# Altium footprint library QFN-32_UH-L.PcbLib: 1 footprints
Each footprint in its own frame and in the unit in brackets; x right, y up, seen from the top. Pads: shape width x height; smd on the part's side, far side on the other; paste and mask are expansions set on the pad; w line width, h text height; cw(c..) or ccw(c..) is an arc to the next point about the centre after c.
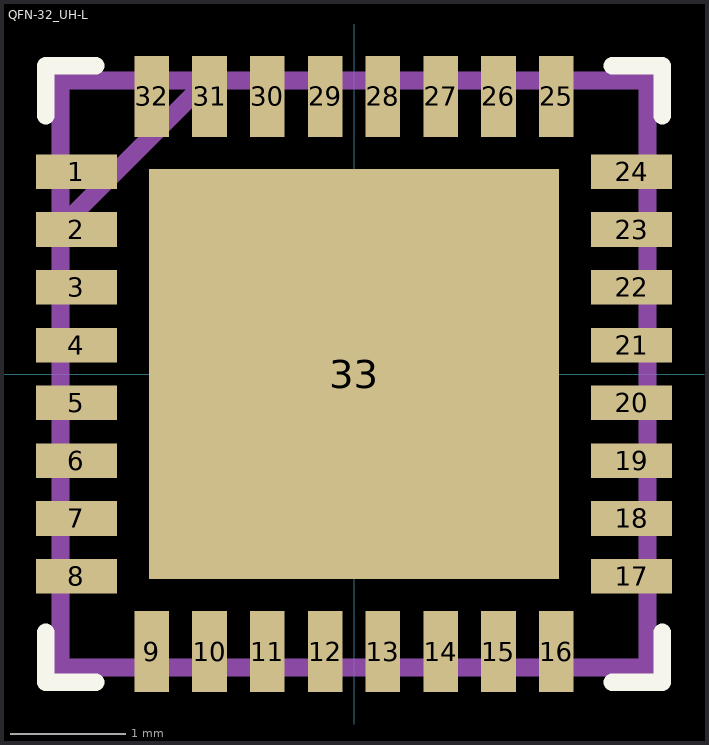
[diagram p0: the footprint, top view; thin cyan lines are the x and y axes]

## QFN-32_UH-L [mm]
pads (33):
  rect 0.703x0.3 smd paste-25.4 mask-25.4: 1(-2.402,1.75) 2(-2.402,1.25) 3(-2.402,0.75) 4(-2.402,0.25) 5(-2.402,-0.25) 6(-2.402,-0.75) 7(-2.402,-1.25) 8(-2.402,-1.75) 17(2.402,-1.75) 18(2.402,-1.25) 19(2.402,-0.75) 20(2.402,-0.25) 21(2.402,0.25) 22(2.402,0.75) 23(2.402,1.25) 24(2.402,1.75)
  rect 0.3x0.703 smd paste-25.4 mask-25.4: 9(-1.75,-2.402) 10(-1.25,-2.402) 11(-0.75,-2.402) 12(-0.25,-2.402) 13(0.25,-2.402) 14(0.75,-2.402) 15(1.25,-2.402) 16(1.75,-2.402) 25(1.75,2.402) 26(1.25,2.402) 27(0.75,2.402) 28(0.25,2.402) 29(-0.25,2.402) 30(-0.75,2.402) 31(-1.25,2.402) 32(-1.75,2.402)
  rect 3.55x3.55 smd mask-25.4: 33(0,0)
Top Overlay:
  lines w0.152: -2.667,-2.235 -2.667,-2.667 -2.235,-2.667 ; -2.667,2.235 -2.667,2.667 -2.235,2.667 ; 2.235,-2.667 2.667,-2.667 2.667,-2.235 ; 2.235,2.667 2.667,2.667 2.667,2.235
Top Paste:
  region: -1.6,2.753 -1.9,2.753 -1.9,2.05 -1.6,2.05
  region: -1.1,2.753 -1.4,2.753 -1.4,2.05 -1.1,2.05
  region: -0.6,2.753 -0.9,2.753 -0.9,2.05 -0.6,2.05
  region: -0.1,2.753 -0.4,2.753 -0.4,2.05 -0.1,2.05
  region: 0.4,2.753 0.1,2.753 0.1,2.05 0.4,2.05
  region: 0.9,2.753 0.6,2.753 0.6,2.05 0.9,2.05
  region: 1.4,2.753 1.1,2.753 1.1,2.05 1.4,2.05
  region: 1.9,2.753 1.6,2.753 1.6,2.05 1.9,2.05
  region: 2.05,1.9 2.05,1.6 2.753,1.6 2.753,1.9
  region: 2.05,1.4 2.05,1.1 2.753,1.1 2.753,1.4
  region: 2.05,0.9 2.05,0.6 2.753,0.6 2.753,0.9
  region: 2.05,0.4 2.05,0.1 2.753,0.1 2.753,0.4
  region: 2.05,-0.1 2.05,-0.4 2.753,-0.4 2.753,-0.1
  region: 2.05,-0.6 2.05,-0.9 2.753,-0.9 2.753,-0.6
  region: 2.05,-1.1 2.05,-1.4 2.753,-1.4 2.753,-1.1
  region: 2.05,-1.6 2.05,-1.9 2.753,-1.9 2.753,-1.6
  region: 1.9,-2.05 1.6,-2.05 1.6,-2.753 1.9,-2.753
  region: 1.4,-2.05 1.1,-2.05 1.1,-2.753 1.4,-2.753
  region: 0.9,-2.05 0.6,-2.05 0.6,-2.753 0.9,-2.753
  region: 0.4,-2.05 0.1,-2.05 0.1,-2.753 0.4,-2.753
  region: -0.1,-2.05 -0.4,-2.05 -0.4,-2.753 -0.1,-2.753
  region: -0.6,-2.05 -0.9,-2.05 -0.9,-2.753 -0.6,-2.753
  region: -1.1,-2.05 -1.4,-2.05 -1.4,-2.753 -1.1,-2.753
  region: -1.6,-2.05 -1.9,-2.05 -1.9,-2.753 -1.6,-2.753
  region: -2.753,-1.6 -2.753,-1.9 -2.05,-1.9 -2.05,-1.6
  region: -2.753,-1.1 -2.753,-1.4 -2.05,-1.4 -2.05,-1.1
  region: -2.753,-0.6 -2.753,-0.9 -2.05,-0.9 -2.05,-0.6
  region: -2.753,-0.1 -2.753,-0.4 -2.05,-0.4 -2.05,-0.1
  region: -2.753,0.4 -2.753,0.1 -2.05,0.1 -2.05,0.4
  region: -2.753,0.9 -2.753,0.6 -2.05,0.6 -2.05,0.9
  region: -2.753,1.4 -2.753,1.1 -2.05,1.1 -2.05,1.4
  region: -2.753,1.9 -2.753,1.6 -2.05,1.6 -2.05,1.9
Top Solder:
  region: -1.775,-1.775 1.775,-1.775 1.775,1.775 -1.775,1.775
  region: -1.6,2.753 -1.9,2.753 -1.9,2.05 -1.6,2.05
  region: -1.1,2.753 -1.4,2.753 -1.4,2.05 -1.1,2.05
  region: -0.6,2.753 -0.9,2.753 -0.9,2.05 -0.6,2.05
  region: -0.1,2.753 -0.4,2.753 -0.4,2.05 -0.1,2.05
  region: 0.4,2.753 0.1,2.753 0.1,2.05 0.4,2.05
  region: 0.9,2.753 0.6,2.753 0.6,2.05 0.9,2.05
  region: 1.4,2.753 1.1,2.753 1.1,2.05 1.4,2.05
  region: 1.9,2.753 1.6,2.753 1.6,2.05 1.9,2.05
  region: 2.05,1.9 2.05,1.6 2.753,1.6 2.753,1.9
  region: 2.05,1.4 2.05,1.1 2.753,1.1 2.753,1.4
  region: 2.05,0.9 2.05,0.6 2.753,0.6 2.753,0.9
  region: 2.05,0.4 2.05,0.1 2.753,0.1 2.753,0.4
  region: 2.05,-0.1 2.05,-0.4 2.753,-0.4 2.753,-0.1
  region: 2.05,-0.6 2.05,-0.9 2.753,-0.9 2.753,-0.6
  region: 2.05,-1.1 2.05,-1.4 2.753,-1.4 2.753,-1.1
  region: 2.05,-1.6 2.05,-1.9 2.753,-1.9 2.753,-1.6
  region: 1.9,-2.05 1.6,-2.05 1.6,-2.753 1.9,-2.753
  region: 1.4,-2.05 1.1,-2.05 1.1,-2.753 1.4,-2.753
  region: 0.9,-2.05 0.6,-2.05 0.6,-2.753 0.9,-2.753
  region: 0.4,-2.05 0.1,-2.05 0.1,-2.753 0.4,-2.753
  region: -0.1,-2.05 -0.4,-2.05 -0.4,-2.753 -0.1,-2.753
  region: -0.6,-2.05 -0.9,-2.05 -0.9,-2.753 -0.6,-2.753
  region: -1.1,-2.05 -1.4,-2.05 -1.4,-2.753 -1.1,-2.753
  region: -1.6,-2.05 -1.9,-2.05 -1.9,-2.753 -1.6,-2.753
  region: -2.753,-1.6 -2.753,-1.9 -2.05,-1.9 -2.05,-1.6
  region: -2.753,-1.1 -2.753,-1.4 -2.05,-1.4 -2.05,-1.1
  region: -2.753,-0.6 -2.753,-0.9 -2.05,-0.9 -2.05,-0.6
  region: -2.753,-0.1 -2.753,-0.4 -2.05,-0.4 -2.05,-0.1
  region: -2.753,0.4 -2.753,0.1 -2.05,0.1 -2.05,0.4
  region: -2.753,0.9 -2.753,0.6 -2.05,0.6 -2.05,0.9
  region: -2.753,1.4 -2.753,1.1 -2.05,1.1 -2.05,1.4
  region: -2.753,1.9 -2.753,1.6 -2.05,1.6 -2.05,1.9
Mechanical 1:
  lines w0.152: -2.54,-1.905 -2.54,-1.6 ; -2.54,-1.397 -2.54,-1.092 ; -2.54,-0.889 -2.54,-0.61 ; -2.54,-0.406 -2.54,-0.102 ; -2.54,0.102 -2.54,0.406 ; -2.54,0.61 -2.54,0.889 ; -2.54,1.092 -2.54,1.397 ; -2.54,1.27 -1.27,2.54 ; -2.54,1.6 -2.54,1.905 ; -1.905,-2.54 -1.6,-2.54 ; -1.905,2.54 -1.6,2.54 ; -1.397,-2.54 -1.092,-2.54 ; -1.397,2.54 -1.092,2.54 ; -0.889,-2.54 -0.61,-2.54 ; -0.889,2.54 -0.61,2.54 ; -0.406,-2.54 -0.102,-2.54 ; -0.406,2.54 -0.102,2.54 ; 0.102,-2.54 0.406,-2.54 ; 0.102,2.54 0.406,2.54 ; 0.61,-2.54 0.889,-2.54 ; 0.61,2.54 0.889,2.54 ; 1.092,-2.54 1.397,-2.54 ; 1.092,2.54 1.397,2.54 ; 1.6,-2.54 1.905,-2.54 ; 1.6,2.54 1.905,2.54 ; 2.54,-1.905 2.54,-1.6 ; 2.54,-1.397 2.54,-1.092 ; 2.54,-0.889 2.54,-0.61 ; 2.54,-0.406 2.54,-0.102 ; 2.54,0.102 2.54,0.406 ; 2.54,0.61 2.54,0.889 ; 2.54,1.092 2.54,1.397 ; 2.54,1.6 2.54,1.905 ; -2.54,-2.54 -2.54,2.54 2.54,2.54 2.54,-2.54 -2.54,-2.54